# EAGLE library part 74HCT4066 (library nxp)
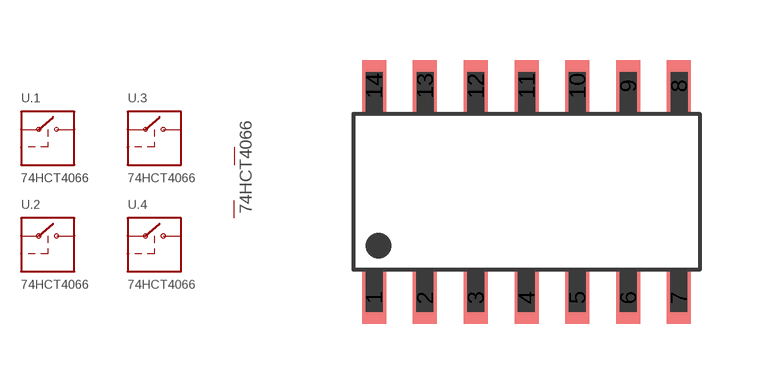
[diagram p2: symbol with the pads of SO14; footprint SO14]

Designator prefix U; gates .1=BILATERAL_SWITCH .2=BILATERAL_SWITCH .3=BILATERAL_SWITCH .4=BILATERAL_SWITCH G$5=PWR

## 74HCT4066  [SO14]
1  .1:Y
2  .1:Z
3  .2:Z
4  .2:Y
5  .2:EN
6  .3:EN
7  G$5:GND
8  .3:Y
9  .3:Z
10  .4:Z
11  .4:Y
12  .4:EN
13  .1:EN
14  G$5:PWR

## Footprint SO14 (pad centres in mm)
smd 0.6 x 1.3: 1 -3.81,-2.65; 2 -2.54,-2.65; 3 -1.27,-2.65; 4 0,-2.65; 5 1.27,-2.65; 6 2.54,-2.65; 7 3.81,-2.65; 8 3.81,2.65; 9 2.54,2.65; 10 1.27,2.65; 11 0,2.65; 12 -1.27,2.65; 13 -2.54,2.65; 14 -3.81,2.65